# Altium schematic symbol library max1983eut_t.SchLib: 1 symbol
Pins are listed as number, name and electrical type; pins without a type are passive.

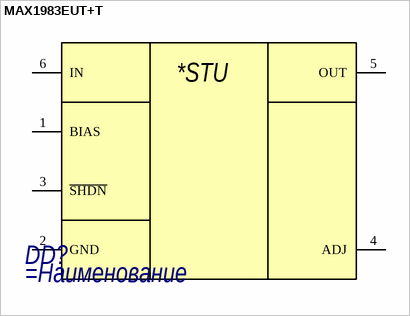
[diagram p0: symbol MAX1983EUT+T]

## MAX1983EUT+T
designator DD?
=Описание
pins: 1 BIAS, 2 GND, 3 ~{SHDN}, 4 ADJ, 5 OUT, 6 IN
text: *STU